# Altium footprint library 2512_R.PcbLib: 1 footprints
Each footprint in its own frame and in the unit in brackets; x right, y up, seen from the top. Pads: shape width x height; smd on the part's side, far side on the other; paste and mask are expansions set on the pad; w line width, h text height; cw(c..) or ccw(c..) is an arc to the next point about the centre after c.
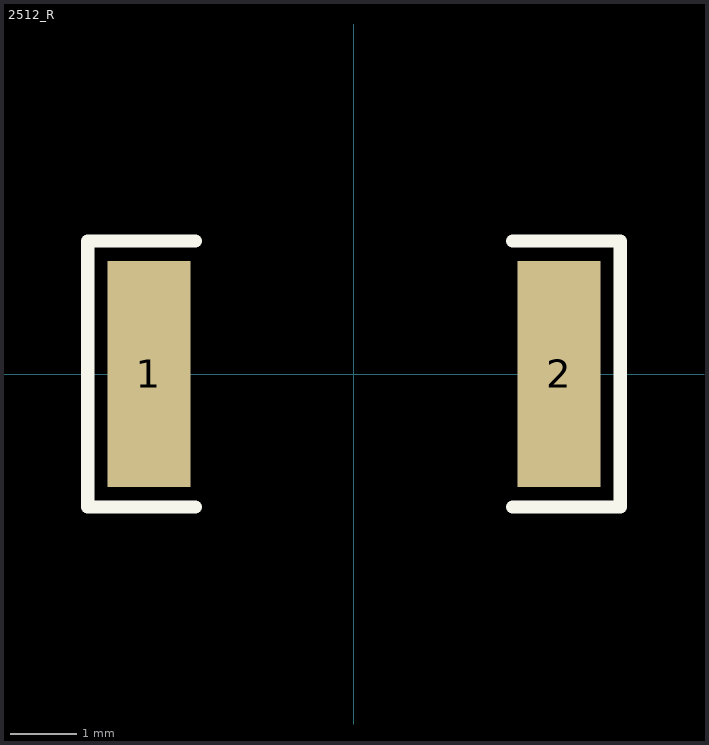
[diagram p0: the footprint, top view; thin cyan lines are the x and y axes]

## 2512_R [mm]
pads (2):
  rect 1.25x3.42 smd: 1(-3.1,0) 2(3.1,0)
Top Overlay:
  lines w0.2: -2.4,-2.01 -4.025,-2.01 -4.025,2.01 -2.4,2.01 ; 2.4,-2.01 4.025,-2.01 4.025,2.01 2.4,2.01
3D body: height 0.62, standoff 0, extent -3.159,-1.6 3.16,1.6